# Altium footprint library TO-220.PcbLib: 1 footprints
Each footprint in its own frame and in the unit in brackets; x right, y up, seen from the top. Pads: shape width x height; smd on the part's side, far side on the other; paste and mask are expansions set on the pad; w line width, h text height; cw(c..) or ccw(c..) is an arc to the next point about the centre after c.
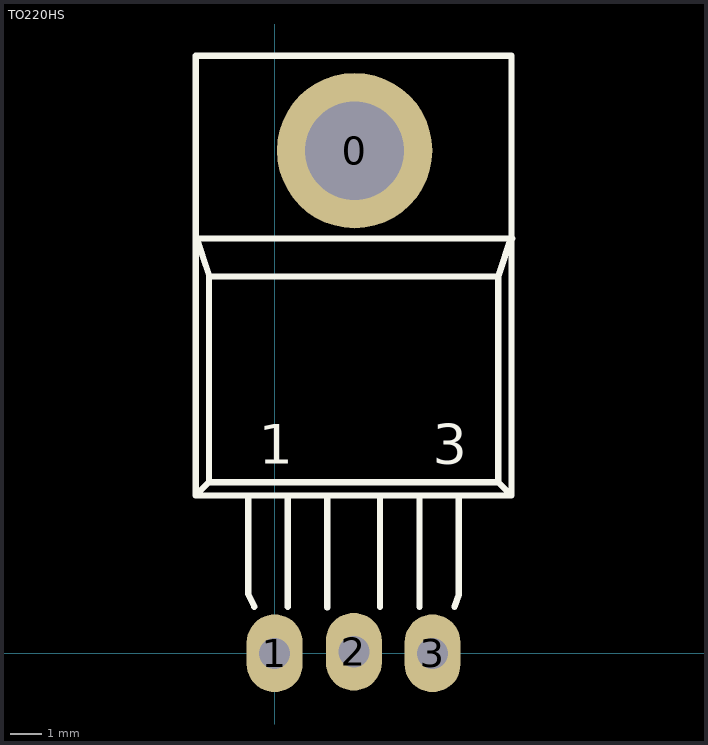
[diagram p0: the footprint, top view; thin cyan lines are the x and y axes]

## TO220HS [mm]
pads (4):
  round 5 hole 3.175: 0(2.575,16.175)
  oval 1.8x2.5 hole 1: 1(0.003,-0.001) 2(2.55,0.05) 3(5.083,-0.001)
Top Overlay:
  lines w0.2: -2.537,19.225 -2.537,17.567 -2.537,5.079 ; -2.523,13.42 -2.1,12.15 ; -2.51,13.35 7.65,13.35 ; -2.5,19.225 7.623,19.225 7.623,17.567 7.623,15.027 7.623,5.079 ; -2.114,12.075 -2.114,5.502 ; -2.113,12.125 7.2,12.125 ; -0.844,5.079 -0.844,1.904 -0.653,1.499 ; 0.426,1.499 0.426,5.079 ; 1.696,1.475 1.696,5.079 ; 3.389,1.5 3.389,5.079 ; 4.659,1.499 4.659,5.079 ; 5.794,1.499 5.929,1.904 5.929,5.079 ; 7.199,12.05 7.199,5.502 ; 7.2,12.15 7.623,13.42 ; -2.537,5.079 7.623,5.079 ; -2.537,5.079 -2.114,5.502 ; -2.114,5.502 7.199,5.502 ; 7.199,5.502 7.623,5.079
  text "3" at 5.083,6.095 h1.27
  text "1" at -0.505,6.095 h1.27
3D body: height 4.3, standoff -2.9, extent -2.5,-0.32 7.66,19.17